# EAGLE library part GHI_STM32F40X (library FEZ_Cerb40)
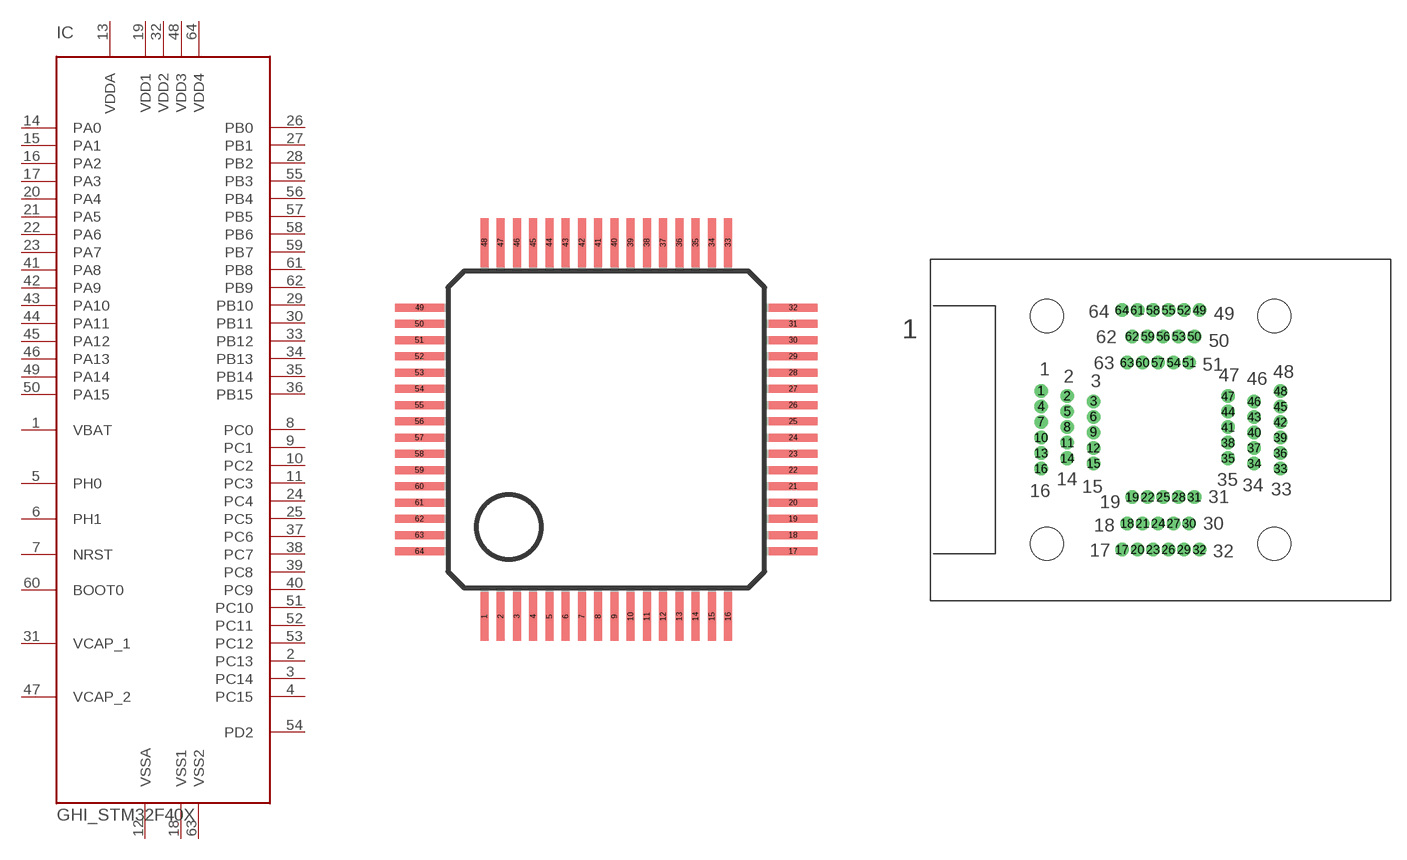
[diagram p0: symbol with the pads of GHI_LQFP64; footprints GHI_LQFP64, GHI_TQFP64_ZIF]

Designator prefix IC

## GHI_STM32F40X  [GHI_LQFP64]
1  VBAT
2  PC13
3  PC14
4  PC15
5  PH0
6  PH1
7  NRST
8  PC0
9  PC1
10  PC2
11  PC3
12  VSSA
13  VDDA
14  PA0
15  PA1
16  PA2
17  PA3
18  VSS1
19  VDD1
20  PA4
21  PA5
22  PA6
23  PA7
24  PC4
25  PC5
26  PB0
27  PB1
28  PB2
29  PB10
30  PB11
31  VCAP_1
32  VDD2
33  PB12
34  PB13
35  PB14
36  PB15
37  PC6
38  PC7
39  PC8
40  PC9
41  PA8
42  PA9
43  PA10
44  PA11
45  PA12
46  PA13
47  VCAP_2
48  VDD3
49  PA14
50  PA15
51  PC10
52  PC11
53  PC12
54  PD2
55  PB3
56  PB4
57  PB5
58  PB6
59  PB7
60  BOOT0
61  PB8
62  PB9
63  VSS2
64  VDD4

## GHI_STM32F40XZIF  [GHI_TQFP64_ZIF]
Pads as for GHI_LQFP64

## Footprint GHI_LQFP64 (pad centres in mm)
smd 0.25 x 1.5: 1 -3.75,-5.75; 2 -3.25,-5.75; 3 -2.75,-5.75; 4 -2.25,-5.75; 5 -1.75,-5.75; 6 -1.25,-5.75; 7 -0.75,-5.75; 8 -0.25,-5.75; 9 0.25,-5.75; 10 0.75,-5.75; 11 1.25,-5.75; 12 1.75,-5.75; 13 2.25,-5.75; 14 2.75,-5.75; 15 3.25,-5.75; 16 3.75,-5.75; 33 3.75,5.75; 34 3.25,5.75; 35 2.75,5.75; 36 2.25,5.75; 37 1.75,5.75; 38 1.25,5.75; 39 0.75,5.75; 40 0.25,5.75; 41 -0.25,5.75; 42 -0.75,5.75; 43 -1.25,5.75; 44 -1.75,5.75; 45 -2.25,5.75; 46 -2.75,5.75; 47 -3.25,5.75; 48 -3.75,5.75
smd 1.5 x 0.25: 17 5.75,-3.75; 18 5.75,-3.25; 19 5.75,-2.75; 20 5.75,-2.25; 21 5.75,-1.75; 22 5.75,-1.25; 23 5.75,-0.75; 24 5.75,-0.25; 25 5.75,0.25; 26 5.75,0.75; 27 5.75,1.25; 28 5.75,1.75; 29 5.75,2.25; 30 5.75,2.75; 31 5.75,3.25; 32 5.75,3.75; 49 -5.75,3.75; 50 -5.75,3.25; 51 -5.75,2.75; 52 -5.75,2.25; 53 -5.75,1.75; 54 -5.75,1.25; 55 -5.75,0.75; 56 -5.75,0.25; 57 -5.75,-0.25; 58 -5.75,-0.75; 59 -5.75,-1.25; 60 -5.75,-1.75; 61 -5.75,-2.25; 62 -5.75,-2.75; 63 -5.75,-3.25; 64 -5.75,-3.75

## Footprint GHI_TQFP64_ZIF (pad centres in mm)
drill 0.8 pad 1.18: 1 -11.58,3.75; 2 -9.04,3.25; 3 -6.5,2.75; 4 -11.57,2.25; 5 -9.04,1.75; 6 -6.5,1.25; 7 -11.57,0.75; 8 -9.04,0.25; 9 -6.5,-0.25; 10 -11.57,-0.75; 11 -9.04,-1.25; 12 -6.5,-1.75; 13 -11.57,-2.25; 14 -9.04,-2.75; 15 -6.5,-3.25; 16 -11.58,-3.75; 17 -3.75,-11.58; 18 -3.25,-9.04; 19 -2.75,-6.5; 20 -2.25,-11.57; 21 -1.75,-9.04; 22 -1.25,-6.5; 23 -0.75,-11.57; 24 -0.25,-9.04; 25 0.25,-6.5; 26 0.75,-11.57; 27 1.25,-9.04; 28 1.75,-6.5; 29 2.25,-11.57; 30 2.75,-9.04; 31 3.25,-6.5; 32 3.75,-11.58; 33 11.58,-3.75; 34 9.04,-3.25; 35 6.5,-2.75; 36 11.57,-2.25; 37 9.04,-1.75; 38 6.5,-1.25; 39 11.57,-0.75; 40 9.04,-0.25; 41 6.5,0.25; 42 11.57,0.75; 43 9.04,1.25; 44 6.5,1.75; 45 11.57,2.25; 46 9.04,2.75; 47 6.5,3.25; 48 11.58,3.75; 49 3.75,11.58; 50 3.25,9.04; 51 2.75,6.5; 52 2.25,11.57; 53 1.75,9.04; 54 1.25,6.5; 55 0.75,11.57; 56 0.25,9.04; 57 -0.25,6.5; 58 -0.75,11.57; 59 -1.25,9.04; 60 -1.75,6.5; 61 -2.25,11.57; 62 -2.75,9.04; 63 -3.25,6.5; 64 -3.75,11.58
hole 3.2 at -11,-11
hole 3.2 at 11,-11
hole 3.2 at 11,11
hole 3.2 at -11,11